# EAGLE library part LSI7083N-S (library Spectron2)
Precision Micropower, Low Dropout Voltage References
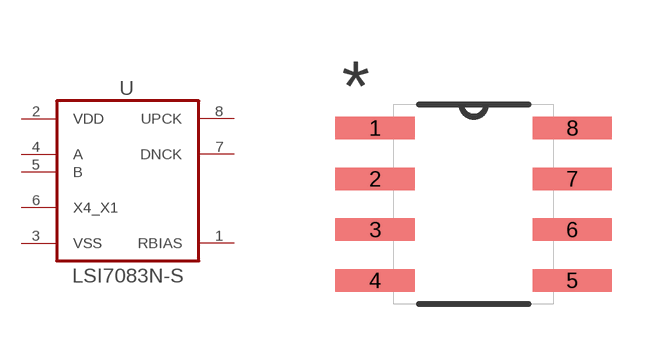
[diagram p10: symbol with the pads of SOIC127P600X175-8N; footprint SOIC127P600X175-8N]

Designator prefix U

## LSI7083N-S (MPN: LS7083N-S; OC_FARNELL: -; PACKAGE: SOIC-8; SUPPLIER: LSI/CSI)  [SOIC127P600X175-8N]
1  RBIAS  in
2  VDD  pwr
3  VSS  pwr
4  A  in
5  B  in
6  X4_X1  in
7  DNCK  out
8  UPCK  out

## Footprint SOIC127P600X175-8N (pad centres in mm)
smd 1.981 x 0.559: 1 -2.464,1.905; 2 -2.464,0.635; 3 -2.464,-0.635; 4 -2.464,-1.905; 5 2.464,-1.905; 6 2.464,-0.635; 7 2.464,0.635; 8 2.464,1.905